# Altium footprint library DC-050.PcbLib: 1 footprints
Each footprint in its own frame and in the unit in brackets; x right, y up, seen from the top. Pads: shape width x height; smd on the part's side, far side on the other; paste and mask are expansions set on the pad; w line width, h text height; cw(c..) or ccw(c..) is an arc to the next point about the centre after c.
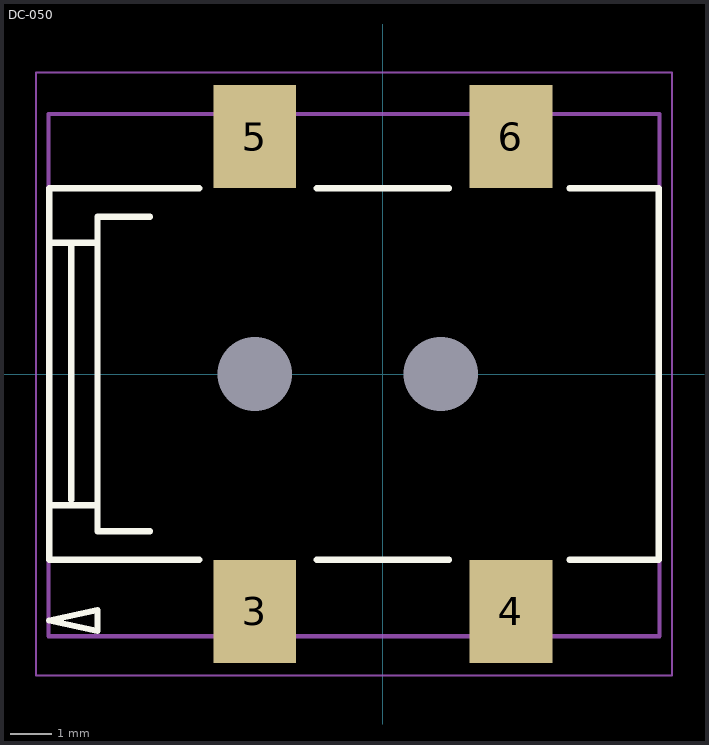
[diagram p0: the footprint, top view; thin cyan lines are the x and y axes]

## DC-050 [mm] "Pitch 6.2mm Body14.8X9mm High 11mm"
height 11
pads (6):
  rect 0x0 hole 1.8 unplated: 0(-3.1,0) 0(1.4,0)
  rect 2x2.5 smd: 3(-3.1,-5.75) 4(3.1,-5.75) 5(-3.1,5.75) 6(3.1,5.75)
Top Overlay:
  lines w0.152: -8.053,-3.175 -6.91,-3.175 ; -8.053,3.175 -6.91,3.175 ; -7.545,-3.048 -7.545,-0.635 -7.545,3.175 ; -5.64,-3.81 -6.91,-3.81 -6.91,3.81 -5.64,3.81 ; -4.445,-4.5 -8.08,-4.5 -8.08,4.5 -4.445,4.5 ; -1.6,-4.5 1.6,-4.5 ; -1.6,4.5 1.6,4.5 ; 4.517,-4.5 6.679,-4.5 6.679,4.5 4.517,4.5 ; -8.08,-5.969 -6.91,-6.223 -6.91,-5.715 -8.08,-5.969
Mechanical 13:
  lines w0.1: -8.1,-6.35 6.7,-6.35 6.7,6.3 -8.1,6.3 -8.1,-6.35
Mechanical 15:
  lines w0.05: -8.405,-7.302 -8.405,7.302 7.004,7.302 7.004,-7.302 -8.405,-7.302
3D body: height 11, standoff -1.01, extent -8.121,-6.3 6.679,6.3